# EAGLE library part DIODES_INC._AZ34063UMTR-G1 (library Diodes Inc. - AZ34063UMTR-G1)
Buck, Boost Switching Regulator IC Positive or Negative Adjustable 1.25V 1 Output 1.5A (Switch) 8-SOIC (0.154", 3.90mm Width)
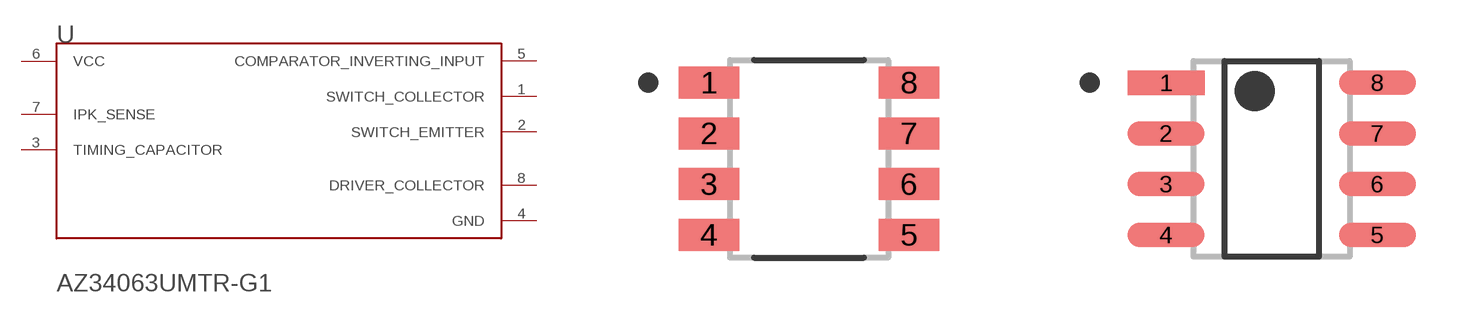
[diagram p0: symbol with the pads of DIODES_INC._AZ34063UMTR-G1_0; footprints DIODES_INC._AZ34063UMTR-G1_0, DIODES_INC._AZ34063UMTR-G1_1]

Designator prefix U

## DIODES_INC._AZ34063UMTR-G1DIODES_INC._AZ34063UMTR-G1_0_0 (DIS: Digi-Key; DPN: AZ34063UMTR-G1DICT-ND; MFR: Diodes Incorporated; MPN: AZ34063UMTR-G1)  [DIODES_INC._AZ34063UMTR-G1_0]
1  SWITCH_COLLECTOR  pas
2  SWITCH_EMITTER  pas
3  TIMING_CAPACITOR  pas
4  GND  pwr
5  COMPARATOR_INVERTING_INPUT  pas
6  VCC  pwr
7  IPK_SENSE  in
8  DRIVER_COLLECTOR  pas

## DIODES_INC._AZ34063UMTR-G1DIODES_INC._AZ34063UMTR-G1_0_1 (AMBIENT_TEMPERATURE_RANGE_HIGH: +85°C; AMBIENT_TEMPERATURE_RANGE_LOW: -40°C; AUTOMOTIVE: No; CENTROID_NOT_SPECIFIED: No; DATASHEET: https://www.diodes.com/assets/Datasheets/AZ34063U.pdf; DEVICE_CLASS_L1: Integrated Circuits (ICs); DEVICE_CLASS_L2: Power Management ICs; DEVICE_CLASS_L3: Voltage Regulators - Switching; DIGIKEY_DESCRIPTION: IC REG BUCK BST ADJ 1.5A 8SOIC; DIGIKEY_PART_NUMBER: AZ34063UMTR-G1DICT-ND; FOOTPRINT_PARAMETERS_1: {"fp_type":"SOIC_narrow","params":{"N":{"nom":"8","long name":"Number of leads","min":null,"max":null,"short name":"N","type":"count"},"A":{"nom":1600000,"long name":"Height","min":1500000,"max":1700000,"short name":"A","type":"measurement"},"A1":{"nom":150000,"long name":"Package clearance","min":100000,"max":200000,"short name":"A1","type":"measurement"},"A2":{"nom":1450000,"long name":"Package height","min":1400000,"max":1500000,"short name":"A2","type":"measurement"},"D":{"nom":4900000,"long name":"Package length","min":4850000,"max":4950000,"short name":"D","type":"measurement"},"E":{"nom":6000000,"long name":"Width w/ leads","min":5900000,"max":6100000,"short name":"E","type":"measurement"},"E1":{"nom":3900000,"long name":"Package width","min":3850000,"max":3950000,"short name":"E1","type":"measurement"},"B":{"nom":400000,"long name":"Lead width","min":300000,"max":500000,"short name":"B","type":"measurement"},"C":{"nom":200000,"long name":"Lead thickness","min":150000,"max":250000,"short name":"C","type":"measurement"},"e":{"nom":1270000,"long name":"Lead pitch","min":null,"max":null,"short name":"e","type":"measurement"},"L":{"nom":720000,"long name":"Lead foot length","min":620000,"max":820000,"short name":"L","type":"measurement"},"PHI":{"nom":4000000,"long name":"Lead foot angle","min":1000000,"max":7000000,"short name":"PHI","type":"measurement"},"HT":{"default":"No","long name":"Thermal pad","type":"multichoiceparent","short name":"HT","children":[]},"offset x":{"nom":0,"long name":"X Center offset","min":null,"max":null,"short name":"offset x","type":"measurement"},"offset y":{"nom":0,"long name":"Y Center offset","min":null,"max":null,"short name":"offset y","type":"measurement"},"LS":{"default":"Rounded rectangle","long name":"Land shape","type":"multichoice","short name":"LS"},"LS1":{"default":"Rectangle","long name":"Land shape (Pin 1)","type":"multichoice","short name":"LS1"},"solder toe":{"nom":550000,"long name":"Solder fillet (toe)","min":null,"max":null,"short name":"solder toe","type":"fixedmeasurement"},"solder heel":{"nom":450000,"long name":"Solder fillet (heel)","min":null,"max":null,"short name":"solder heel","type":"fixedmeasurement"},"solder side":{"nom":50000,"long name":"Solder fillet (side)","min":null,"max":null,"short name":"solder side","type":"fixedmeasurement"},"courtyard":{"nom":500000,"long name":"Courtyard","min":null,"max":null,"short name":"courtyard","type":"fixedmeasurement"},"SF":{"default":"A","long name":"Packing level","type":"multichoiceparent","short name":"SF","help":"http://support.upverter.com/customer/portal/articles/978783-what-is-a-footprint-packing-level","children":["solder toe","solder heel","solder side","courtyard"]}}}; FOOTPRINT_PARAMETERS_2: {"fp_type":"SOIC_narrow","params":{"N":{"nom":"8","long name":"Number of leads","min":null,"max":null,"short name":"N","type":"count"},"A":{"nom":1600000,"long name":"Height","min":1500000,"max":1700000,"short name":"A","type":"measurement"},"A1":{"nom":150000,"long name":"Package clearance","min":100000,"max":200000,"short name":"A1","type":"measurement"},"A2":{"nom":1450000,"long name":"Package height","min":1400000,"max":1500000,"short name":"A2","type":"measurement"},"D":{"nom":4900000,"long name":"Package length","min":4850000,"max":4950000,"short name":"D","type":"measurement"},"E":{"nom":6000000,"long name":"Width w/ leads","min":5900000,"max":6100000,"short name":"E","type":"measurement"},"E1":{"nom":3900000,"long name":"Package width","min":3850000,"max":3950000,"short name":"E1","type":"measurement"},"B":{"nom":400000,"long name":"Lead width","min":300000,"max":500000,"short name":"B","type":"measurement"},"C":{"nom":200000,"long name":"Lead thickness","min":150000,"max":250000,"short name":"C","type":"measurement"},"e":{"nom":1270000,"long name":"Lead pitch","min":null,"max":null,"short name":"e","type":"measurement"},"L":{"nom":720000,"long name":"Lead foot length","min":620000,"max":820000,"short name":"L","type":"measurement"},"PHI":{"nom":4000000,"long name":"Lead foot angle","min":1000000,"max":7000000,"short name":"PHI","type":"measurement"},"HT":{"default":"No","long name":"Thermal pad","type":"multichoiceparent","short name":"HT","children":[]},"offset x":{"nom":0,"long name":"X Center offset","min":null,"max":null,"short name":"offset x","type":"measurement"},"offset y":{"nom":0,"long name":"Y Center offset","min":null,"max":null,"short name":"offset y","type":"measurement"},"LS":{"default":"Rounded rectangle","long name":"Land shape","type":"multichoice","short name":"LS"},"LS1":{"default":"Rectangle","long name":"Land shape (Pin 1)","type":"multichoice","short name":"LS1"},"solder toe":{"nom":350000,"long name":"Solder fillet (toe)","min":null,"max":null,"short name":"solder toe","type":"fixedmeasurement"},"solder heel":{"nom":350000,"long name":"Solder fillet (heel)","min":null,"max":null,"short name":"solder heel","type":"fixedmeasurement"},"solder side":{"nom":30000,"long name":"Solder fillet (side)","min":null,"max":null,"short name":"solder side","type":"fixedmeasurement"},"courtyard":{"nom":250000,"long name":"Courtyard","min":null,"max":null,"short name":"courtyard","type":"fixedmeasurement"},"SF":{"default":"B","long name":"Packing level","type":"multichoiceparent","short name":"SF","help":"http://support.upverter.com/customer/portal/articles/978783-what-is-a-footprint-packing-level","children":["solder toe","solder heel","solder side","courtyard"]}}}; FOOTPRINT_PARAMETERS_3: {"fp_type":"SOIC_narrow","params":{"N":{"nom":"8","long name":"Number of leads","min":null,"max":null,"short name":"N","type":"count"},"A":{"nom":1600000,"long name":"Height","min":1500000,"max":1700000,"short name":"A","type":"measurement"},"A1":{"nom":150000,"long name":"Package clearance","min":100000,"max":200000,"short name":"A1","type":"measurement"},"A2":{"nom":1450000,"long name":"Package height","min":1400000,"max":1500000,"short name":"A2","type":"measurement"},"D":{"nom":4900000,"long name":"Package length","min":4850000,"max":4950000,"short name":"D","type":"measurement"},"E":{"nom":6000000,"long name":"Width w/ leads","min":5900000,"max":6100000,"short name":"E","type":"measurement"},"E1":{"nom":3900000,"long name":"Package width","min":3850000,"max":3950000,"short name":"E1","type":"measurement"},"B":{"nom":400000,"long name":"Lead width","min":300000,"max":500000,"short name":"B","type":"measurement"},"C":{"nom":200000,"long name":"Lead thickness","min":150000,"max":250000,"short name":"C","type":"measurement"},"e":{"nom":1270000,"long name":"Lead pitch","min":null,"max":null,"short name":"e","type":"measurement"},"L":{"nom":720000,"long name":"Lead foot length","min":620000,"max":820000,"short name":"L","type":"measurement"},"PHI":{"nom":4000000,"long name":"Lead foot angle","min":1000000,"max":7000000,"short name":"PHI","type":"measurement"},"HT":{"default":"No","long name":"Thermal pad","type":"multichoiceparent","short name":"HT","children":[]},"offset x":{"nom":0,"long name":"X Center offset","min":null,"max":null,"short name":"offset x","type":"measurement"},"offset y":{"nom":0,"long name":"Y Center offset","min":null,"max":null,"short name":"offset y","type":"measurement"},"LS":{"default":"Rounded rectangle","long name":"Land shape","type":"multichoice","short name":"LS"},"LS1":{"default":"Rectangle","long name":"Land shape (Pin 1)","type":"multichoice","short name":"LS1"},"solder toe":{"nom":150000,"long name":"Solder fillet (toe)","min":null,"max":null,"short name":"solder toe","type":"fixedmeasurement"},"solder heel":{"nom":250000,"long name":"Solder fillet (heel)","min":null,"max":null,"short name":"solder heel","type":"fixedmeasurement"},"solder side":{"nom":10000,"long name":"Solder fillet (side)","min":null,"max":null,"short name":"solder side","type":"fixedmeasurement"},"courtyard":{"nom":100000,"long name":"Courtyard","min":null,"max":null,"short name":"courtyard","type":"fixedmeasurement"},"SF":{"default":"C","long name":"Packing level","type":"multichoiceparent","short name":"SF","help":"http://support.upverter.com/customer/portal/articles/978783-what-is-a-footprint-packing-level","children":["solder toe","solder heel","solder side","courtyard"]}}}; FOOTPRINT_URL: https://www.diodes.com/assets/Package-Files/SO-8.pdf; FOOTPRINT_VARIANT_NAME_0: Recommended_Land_Pattern; FOOTPRINT_VARIANT_NAME_1: IPC_A; FOOTPRINT_VARIANT_NAME_2: IPC_B; FOOTPRINT_VARIANT_NAME_3: IPC_C; HEIGHT: 1.7mm; IPC_LAND_PATTERN_NAME: SOIC127P600X160-8; LEAD_FREE: Yes; MAX_JUNCTION_TEMP: +150°C; MAX_POWER_DISSIPATION: 780mW; MAX_SUPPLY_VOLTAGE: 36V; MF: Diodes Inc.; MFG_PACKAGE_IDENT: SO-8; MFG_PACKAGE_IDENT_COMPONENT_ID: 5582ebb69da50281; MFG_PACKAGE_IDENT_DATE: 03/2017; MFG_PACKAGE_IDENT_REV: 0; MIN_SUPPLY_VOLTAGE: 3V; MOUSER_DESCRIPTION: Voltage Regulators - Switching Regulators 1.5A Step-Down/Up 3.0V to 36V 180kHz; MOUSER_PART_NUMBER: 621-AZ34063UMTR-G1; MPN: AZ34063UMTR-G1; NOMINAL_SUPPLY_CURRENT: 4mA; NUMBER_OF_OUTPUTS: 1; OUTPUT_CURRENT: 1.5A; OUTPUT_TYPE: AdjustableProgrammable; OUTPUT_VOLTAGE: 1.25-36V; PACKAGE: SOIC8; PREFIX: U; ROHS: Yes; STANDOFF_HEIGHT: 0.1mm; SWITCHING_FREQUENCY: 38kHz; SWITCHING_TOPOLOGY: Buck-Boost; TEMPERATURE_RANGE_HIGH: +85°C; TEMPERATURE_RANGE_LOW: -40°C; VERIFICATION_VERSION: 0.0.0.3)  [DIODES_INC._AZ34063UMTR-G1_1]
Pads as for DIODES_INC._AZ34063UMTR-G1_0

## DIODES_INC._AZ34063UMTR-G1DIODES_INC._AZ34063UMTR-G1_0_2 (AMBIENT_TEMPERATURE_RANGE_HIGH: +85°C; AMBIENT_TEMPERATURE_RANGE_LOW: -40°C; AUTOMOTIVE: No; CENTROID_NOT_SPECIFIED: No; DATASHEET: https://www.diodes.com/assets/Datasheets/AZ34063U.pdf; DEVICE_CLASS_L1: Integrated Circuits (ICs); DEVICE_CLASS_L2: Power Management ICs; DEVICE_CLASS_L3: Voltage Regulators - Switching; DIGIKEY_DESCRIPTION: IC REG BUCK BST ADJ 1.5A 8SOIC; DIGIKEY_PART_NUMBER: AZ34063UMTR-G1DICT-ND; FOOTPRINT_PARAMETERS_1: {"fp_type":"SOIC_narrow","params":{"N":{"nom":"8","long name":"Number of leads","min":null,"max":null,"short name":"N","type":"count"},"A":{"nom":1600000,"long name":"Height","min":1500000,"max":1700000,"short name":"A","type":"measurement"},"A1":{"nom":150000,"long name":"Package clearance","min":100000,"max":200000,"short name":"A1","type":"measurement"},"A2":{"nom":1450000,"long name":"Package height","min":1400000,"max":1500000,"short name":"A2","type":"measurement"},"D":{"nom":4900000,"long name":"Package length","min":4850000,"max":4950000,"short name":"D","type":"measurement"},"E":{"nom":6000000,"long name":"Width w/ leads","min":5900000,"max":6100000,"short name":"E","type":"measurement"},"E1":{"nom":3900000,"long name":"Package width","min":3850000,"max":3950000,"short name":"E1","type":"measurement"},"B":{"nom":400000,"long name":"Lead width","min":300000,"max":500000,"short name":"B","type":"measurement"},"C":{"nom":200000,"long name":"Lead thickness","min":150000,"max":250000,"short name":"C","type":"measurement"},"e":{"nom":1270000,"long name":"Lead pitch","min":null,"max":null,"short name":"e","type":"measurement"},"L":{"nom":720000,"long name":"Lead foot length","min":620000,"max":820000,"short name":"L","type":"measurement"},"PHI":{"nom":4000000,"long name":"Lead foot angle","min":1000000,"max":7000000,"short name":"PHI","type":"measurement"},"HT":{"default":"No","long name":"Thermal pad","type":"multichoiceparent","short name":"HT","children":[]},"offset x":{"nom":0,"long name":"X Center offset","min":null,"max":null,"short name":"offset x","type":"measurement"},"offset y":{"nom":0,"long name":"Y Center offset","min":null,"max":null,"short name":"offset y","type":"measurement"},"LS":{"default":"Rounded rectangle","long name":"Land shape","type":"multichoice","short name":"LS"},"LS1":{"default":"Rectangle","long name":"Land shape (Pin 1)","type":"multichoice","short name":"LS1"},"solder toe":{"nom":550000,"long name":"Solder fillet (toe)","min":null,"max":null,"short name":"solder toe","type":"fixedmeasurement"},"solder heel":{"nom":450000,"long name":"Solder fillet (heel)","min":null,"max":null,"short name":"solder heel","type":"fixedmeasurement"},"solder side":{"nom":50000,"long name":"Solder fillet (side)","min":null,"max":null,"short name":"solder side","type":"fixedmeasurement"},"courtyard":{"nom":500000,"long name":"Courtyard","min":null,"max":null,"short name":"courtyard","type":"fixedmeasurement"},"SF":{"default":"A","long name":"Packing level","type":"multichoiceparent","short name":"SF","help":"http://support.upverter.com/customer/portal/articles/978783-what-is-a-footprint-packing-level","children":["solder toe","solder heel","solder side","courtyard"]}}}; FOOTPRINT_PARAMETERS_2: {"fp_type":"SOIC_narrow","params":{"N":{"nom":"8","long name":"Number of leads","min":null,"max":null,"short name":"N","type":"count"},"A":{"nom":1600000,"long name":"Height","min":1500000,"max":1700000,"short name":"A","type":"measurement"},"A1":{"nom":150000,"long name":"Package clearance","min":100000,"max":200000,"short name":"A1","type":"measurement"},"A2":{"nom":1450000,"long name":"Package height","min":1400000,"max":1500000,"short name":"A2","type":"measurement"},"D":{"nom":4900000,"long name":"Package length","min":4850000,"max":4950000,"short name":"D","type":"measurement"},"E":{"nom":6000000,"long name":"Width w/ leads","min":5900000,"max":6100000,"short name":"E","type":"measurement"},"E1":{"nom":3900000,"long name":"Package width","min":3850000,"max":3950000,"short name":"E1","type":"measurement"},"B":{"nom":400000,"long name":"Lead width","min":300000,"max":500000,"short name":"B","type":"measurement"},"C":{"nom":200000,"long name":"Lead thickness","min":150000,"max":250000,"short name":"C","type":"measurement"},"e":{"nom":1270000,"long name":"Lead pitch","min":null,"max":null,"short name":"e","type":"measurement"},"L":{"nom":720000,"long name":"Lead foot length","min":620000,"max":820000,"short name":"L","type":"measurement"},"PHI":{"nom":4000000,"long name":"Lead foot angle","min":1000000,"max":7000000,"short name":"PHI","type":"measurement"},"HT":{"default":"No","long name":"Thermal pad","type":"multichoiceparent","short name":"HT","children":[]},"offset x":{"nom":0,"long name":"X Center offset","min":null,"max":null,"short name":"offset x","type":"measurement"},"offset y":{"nom":0,"long name":"Y Center offset","min":null,"max":null,"short name":"offset y","type":"measurement"},"LS":{"default":"Rounded rectangle","long name":"Land shape","type":"multichoice","short name":"LS"},"LS1":{"default":"Rectangle","long name":"Land shape (Pin 1)","type":"multichoice","short name":"LS1"},"solder toe":{"nom":350000,"long name":"Solder fillet (toe)","min":null,"max":null,"short name":"solder toe","type":"fixedmeasurement"},"solder heel":{"nom":350000,"long name":"Solder fillet (heel)","min":null,"max":null,"short name":"solder heel","type":"fixedmeasurement"},"solder side":{"nom":30000,"long name":"Solder fillet (side)","min":null,"max":null,"short name":"solder side","type":"fixedmeasurement"},"courtyard":{"nom":250000,"long name":"Courtyard","min":null,"max":null,"short name":"courtyard","type":"fixedmeasurement"},"SF":{"default":"B","long name":"Packing level","type":"multichoiceparent","short name":"SF","help":"http://support.upverter.com/customer/portal/articles/978783-what-is-a-footprint-packing-level","children":["solder toe","solder heel","solder side","courtyard"]}}}; FOOTPRINT_PARAMETERS_3: {"fp_type":"SOIC_narrow","params":{"N":{"nom":"8","long name":"Number of leads","min":null,"max":null,"short name":"N","type":"count"},"A":{"nom":1600000,"long name":"Height","min":1500000,"max":1700000,"short name":"A","type":"measurement"},"A1":{"nom":150000,"long name":"Package clearance","min":100000,"max":200000,"short name":"A1","type":"measurement"},"A2":{"nom":1450000,"long name":"Package height","min":1400000,"max":1500000,"short name":"A2","type":"measurement"},"D":{"nom":4900000,"long name":"Package length","min":4850000,"max":4950000,"short name":"D","type":"measurement"},"E":{"nom":6000000,"long name":"Width w/ leads","min":5900000,"max":6100000,"short name":"E","type":"measurement"},"E1":{"nom":3900000,"long name":"Package width","min":3850000,"max":3950000,"short name":"E1","type":"measurement"},"B":{"nom":400000,"long name":"Lead width","min":300000,"max":500000,"short name":"B","type":"measurement"},"C":{"nom":200000,"long name":"Lead thickness","min":150000,"max":250000,"short name":"C","type":"measurement"},"e":{"nom":1270000,"long name":"Lead pitch","min":null,"max":null,"short name":"e","type":"measurement"},"L":{"nom":720000,"long name":"Lead foot length","min":620000,"max":820000,"short name":"L","type":"measurement"},"PHI":{"nom":4000000,"long name":"Lead foot angle","min":1000000,"max":7000000,"short name":"PHI","type":"measurement"},"HT":{"default":"No","long name":"Thermal pad","type":"multichoiceparent","short name":"HT","children":[]},"offset x":{"nom":0,"long name":"X Center offset","min":null,"max":null,"short name":"offset x","type":"measurement"},"offset y":{"nom":0,"long name":"Y Center offset","min":null,"max":null,"short name":"offset y","type":"measurement"},"LS":{"default":"Rounded rectangle","long name":"Land shape","type":"multichoice","short name":"LS"},"LS1":{"default":"Rectangle","long name":"Land shape (Pin 1)","type":"multichoice","short name":"LS1"},"solder toe":{"nom":150000,"long name":"Solder fillet (toe)","min":null,"max":null,"short name":"solder toe","type":"fixedmeasurement"},"solder heel":{"nom":250000,"long name":"Solder fillet (heel)","min":null,"max":null,"short name":"solder heel","type":"fixedmeasurement"},"solder side":{"nom":10000,"long name":"Solder fillet (side)","min":null,"max":null,"short name":"solder side","type":"fixedmeasurement"},"courtyard":{"nom":100000,"long name":"Courtyard","min":null,"max":null,"short name":"courtyard","type":"fixedmeasurement"},"SF":{"default":"C","long name":"Packing level","type":"multichoiceparent","short name":"SF","help":"http://support.upverter.com/customer/portal/articles/978783-what-is-a-footprint-packing-level","children":["solder toe","solder heel","solder side","courtyard"]}}}; FOOTPRINT_URL: https://www.diodes.com/assets/Package-Files/SO-8.pdf; FOOTPRINT_VARIANT_NAME_0: Recommended_Land_Pattern; FOOTPRINT_VARIANT_NAME_1: IPC_A; FOOTPRINT_VARIANT_NAME_2: IPC_B; FOOTPRINT_VARIANT_NAME_3: IPC_C; HEIGHT: 1.7mm; IPC_LAND_PATTERN_NAME: SOIC127P600X160-8; LEAD_FREE: Yes; MAX_JUNCTION_TEMP: +150°C; MAX_POWER_DISSIPATION: 780mW; MAX_SUPPLY_VOLTAGE: 36V; MF: Diodes Inc.; MFG_PACKAGE_IDENT: SO-8; MFG_PACKAGE_IDENT_COMPONENT_ID: 5582ebb69da50281; MFG_PACKAGE_IDENT_DATE: 03/2017; MFG_PACKAGE_IDENT_REV: 0; MIN_SUPPLY_VOLTAGE: 3V; MOUSER_DESCRIPTION: Voltage Regulators - Switching Regulators 1.5A Step-Down/Up 3.0V to 36V 180kHz; MOUSER_PART_NUMBER: 621-AZ34063UMTR-G1; MPN: AZ34063UMTR-G1; NOMINAL_SUPPLY_CURRENT: 4mA; NUMBER_OF_OUTPUTS: 1; OUTPUT_CURRENT: 1.5A; OUTPUT_TYPE: AdjustableProgrammable; OUTPUT_VOLTAGE: 1.25-36V; PACKAGE: SOIC8; PREFIX: U; ROHS: Yes; STANDOFF_HEIGHT: 0.1mm; SWITCHING_FREQUENCY: 38kHz; SWITCHING_TOPOLOGY: Buck-Boost; TEMPERATURE_RANGE_HIGH: +85°C; TEMPERATURE_RANGE_LOW: -40°C; VERIFICATION_VERSION: 0.0.0.3)  [DIODES_INC._AZ34063UMTR-G1_2]
Pads as for DIODES_INC._AZ34063UMTR-G1_0

## DIODES_INC._AZ34063UMTR-G1DIODES_INC._AZ34063UMTR-G1_0_3 (AMBIENT_TEMPERATURE_RANGE_HIGH: +85°C; AMBIENT_TEMPERATURE_RANGE_LOW: -40°C; AUTOMOTIVE: No; CENTROID_NOT_SPECIFIED: No; DATASHEET: https://www.diodes.com/assets/Datasheets/AZ34063U.pdf; DEVICE_CLASS_L1: Integrated Circuits (ICs); DEVICE_CLASS_L2: Power Management ICs; DEVICE_CLASS_L3: Voltage Regulators - Switching; DIGIKEY_DESCRIPTION: IC REG BUCK BST ADJ 1.5A 8SOIC; DIGIKEY_PART_NUMBER: AZ34063UMTR-G1DICT-ND; FOOTPRINT_PARAMETERS_1: {"fp_type":"SOIC_narrow","params":{"N":{"nom":"8","long name":"Number of leads","min":null,"max":null,"short name":"N","type":"count"},"A":{"nom":1600000,"long name":"Height","min":1500000,"max":1700000,"short name":"A","type":"measurement"},"A1":{"nom":150000,"long name":"Package clearance","min":100000,"max":200000,"short name":"A1","type":"measurement"},"A2":{"nom":1450000,"long name":"Package height","min":1400000,"max":1500000,"short name":"A2","type":"measurement"},"D":{"nom":4900000,"long name":"Package length","min":4850000,"max":4950000,"short name":"D","type":"measurement"},"E":{"nom":6000000,"long name":"Width w/ leads","min":5900000,"max":6100000,"short name":"E","type":"measurement"},"E1":{"nom":3900000,"long name":"Package width","min":3850000,"max":3950000,"short name":"E1","type":"measurement"},"B":{"nom":400000,"long name":"Lead width","min":300000,"max":500000,"short name":"B","type":"measurement"},"C":{"nom":200000,"long name":"Lead thickness","min":150000,"max":250000,"short name":"C","type":"measurement"},"e":{"nom":1270000,"long name":"Lead pitch","min":null,"max":null,"short name":"e","type":"measurement"},"L":{"nom":720000,"long name":"Lead foot length","min":620000,"max":820000,"short name":"L","type":"measurement"},"PHI":{"nom":4000000,"long name":"Lead foot angle","min":1000000,"max":7000000,"short name":"PHI","type":"measurement"},"HT":{"default":"No","long name":"Thermal pad","type":"multichoiceparent","short name":"HT","children":[]},"offset x":{"nom":0,"long name":"X Center offset","min":null,"max":null,"short name":"offset x","type":"measurement"},"offset y":{"nom":0,"long name":"Y Center offset","min":null,"max":null,"short name":"offset y","type":"measurement"},"LS":{"default":"Rounded rectangle","long name":"Land shape","type":"multichoice","short name":"LS"},"LS1":{"default":"Rectangle","long name":"Land shape (Pin 1)","type":"multichoice","short name":"LS1"},"solder toe":{"nom":550000,"long name":"Solder fillet (toe)","min":null,"max":null,"short name":"solder toe","type":"fixedmeasurement"},"solder heel":{"nom":450000,"long name":"Solder fillet (heel)","min":null,"max":null,"short name":"solder heel","type":"fixedmeasurement"},"solder side":{"nom":50000,"long name":"Solder fillet (side)","min":null,"max":null,"short name":"solder side","type":"fixedmeasurement"},"courtyard":{"nom":500000,"long name":"Courtyard","min":null,"max":null,"short name":"courtyard","type":"fixedmeasurement"},"SF":{"default":"A","long name":"Packing level","type":"multichoiceparent","short name":"SF","help":"http://support.upverter.com/customer/portal/articles/978783-what-is-a-footprint-packing-level","children":["solder toe","solder heel","solder side","courtyard"]}}}; FOOTPRINT_PARAMETERS_2: {"fp_type":"SOIC_narrow","params":{"N":{"nom":"8","long name":"Number of leads","min":null,"max":null,"short name":"N","type":"count"},"A":{"nom":1600000,"long name":"Height","min":1500000,"max":1700000,"short name":"A","type":"measurement"},"A1":{"nom":150000,"long name":"Package clearance","min":100000,"max":200000,"short name":"A1","type":"measurement"},"A2":{"nom":1450000,"long name":"Package height","min":1400000,"max":1500000,"short name":"A2","type":"measurement"},"D":{"nom":4900000,"long name":"Package length","min":4850000,"max":4950000,"short name":"D","type":"measurement"},"E":{"nom":6000000,"long name":"Width w/ leads","min":5900000,"max":6100000,"short name":"E","type":"measurement"},"E1":{"nom":3900000,"long name":"Package width","min":3850000,"max":3950000,"short name":"E1","type":"measurement"},"B":{"nom":400000,"long name":"Lead width","min":300000,"max":500000,"short name":"B","type":"measurement"},"C":{"nom":200000,"long name":"Lead thickness","min":150000,"max":250000,"short name":"C","type":"measurement"},"e":{"nom":1270000,"long name":"Lead pitch","min":null,"max":null,"short name":"e","type":"measurement"},"L":{"nom":720000,"long name":"Lead foot length","min":620000,"max":820000,"short name":"L","type":"measurement"},"PHI":{"nom":4000000,"long name":"Lead foot angle","min":1000000,"max":7000000,"short name":"PHI","type":"measurement"},"HT":{"default":"No","long name":"Thermal pad","type":"multichoiceparent","short name":"HT","children":[]},"offset x":{"nom":0,"long name":"X Center offset","min":null,"max":null,"short name":"offset x","type":"measurement"},"offset y":{"nom":0,"long name":"Y Center offset","min":null,"max":null,"short name":"offset y","type":"measurement"},"LS":{"default":"Rounded rectangle","long name":"Land shape","type":"multichoice","short name":"LS"},"LS1":{"default":"Rectangle","long name":"Land shape (Pin 1)","type":"multichoice","short name":"LS1"},"solder toe":{"nom":350000,"long name":"Solder fillet (toe)","min":null,"max":null,"short name":"solder toe","type":"fixedmeasurement"},"solder heel":{"nom":350000,"long name":"Solder fillet (heel)","min":null,"max":null,"short name":"solder heel","type":"fixedmeasurement"},"solder side":{"nom":30000,"long name":"Solder fillet (side)","min":null,"max":null,"short name":"solder side","type":"fixedmeasurement"},"courtyard":{"nom":250000,"long name":"Courtyard","min":null,"max":null,"short name":"courtyard","type":"fixedmeasurement"},"SF":{"default":"B","long name":"Packing level","type":"multichoiceparent","short name":"SF","help":"http://support.upverter.com/customer/portal/articles/978783-what-is-a-footprint-packing-level","children":["solder toe","solder heel","solder side","courtyard"]}}}; FOOTPRINT_PARAMETERS_3: {"fp_type":"SOIC_narrow","params":{"N":{"nom":"8","long name":"Number of leads","min":null,"max":null,"short name":"N","type":"count"},"A":{"nom":1600000,"long name":"Height","min":1500000,"max":1700000,"short name":"A","type":"measurement"},"A1":{"nom":150000,"long name":"Package clearance","min":100000,"max":200000,"short name":"A1","type":"measurement"},"A2":{"nom":1450000,"long name":"Package height","min":1400000,"max":1500000,"short name":"A2","type":"measurement"},"D":{"nom":4900000,"long name":"Package length","min":4850000,"max":4950000,"short name":"D","type":"measurement"},"E":{"nom":6000000,"long name":"Width w/ leads","min":5900000,"max":6100000,"short name":"E","type":"measurement"},"E1":{"nom":3900000,"long name":"Package width","min":3850000,"max":3950000,"short name":"E1","type":"measurement"},"B":{"nom":400000,"long name":"Lead width","min":300000,"max":500000,"short name":"B","type":"measurement"},"C":{"nom":200000,"long name":"Lead thickness","min":150000,"max":250000,"short name":"C","type":"measurement"},"e":{"nom":1270000,"long name":"Lead pitch","min":null,"max":null,"short name":"e","type":"measurement"},"L":{"nom":720000,"long name":"Lead foot length","min":620000,"max":820000,"short name":"L","type":"measurement"},"PHI":{"nom":4000000,"long name":"Lead foot angle","min":1000000,"max":7000000,"short name":"PHI","type":"measurement"},"HT":{"default":"No","long name":"Thermal pad","type":"multichoiceparent","short name":"HT","children":[]},"offset x":{"nom":0,"long name":"X Center offset","min":null,"max":null,"short name":"offset x","type":"measurement"},"offset y":{"nom":0,"long name":"Y Center offset","min":null,"max":null,"short name":"offset y","type":"measurement"},"LS":{"default":"Rounded rectangle","long name":"Land shape","type":"multichoice","short name":"LS"},"LS1":{"default":"Rectangle","long name":"Land shape (Pin 1)","type":"multichoice","short name":"LS1"},"solder toe":{"nom":150000,"long name":"Solder fillet (toe)","min":null,"max":null,"short name":"solder toe","type":"fixedmeasurement"},"solder heel":{"nom":250000,"long name":"Solder fillet (heel)","min":null,"max":null,"short name":"solder heel","type":"fixedmeasurement"},"solder side":{"nom":10000,"long name":"Solder fillet (side)","min":null,"max":null,"short name":"solder side","type":"fixedmeasurement"},"courtyard":{"nom":100000,"long name":"Courtyard","min":null,"max":null,"short name":"courtyard","type":"fixedmeasurement"},"SF":{"default":"C","long name":"Packing level","type":"multichoiceparent","short name":"SF","help":"http://support.upverter.com/customer/portal/articles/978783-what-is-a-footprint-packing-level","children":["solder toe","solder heel","solder side","courtyard"]}}}; FOOTPRINT_URL: https://www.diodes.com/assets/Package-Files/SO-8.pdf; FOOTPRINT_VARIANT_NAME_0: Recommended_Land_Pattern; FOOTPRINT_VARIANT_NAME_1: IPC_A; FOOTPRINT_VARIANT_NAME_2: IPC_B; FOOTPRINT_VARIANT_NAME_3: IPC_C; HEIGHT: 1.7mm; IPC_LAND_PATTERN_NAME: SOIC127P600X160-8; LEAD_FREE: Yes; MAX_JUNCTION_TEMP: +150°C; MAX_POWER_DISSIPATION: 780mW; MAX_SUPPLY_VOLTAGE: 36V; MF: Diodes Inc.; MFG_PACKAGE_IDENT: SO-8; MFG_PACKAGE_IDENT_COMPONENT_ID: 5582ebb69da50281; MFG_PACKAGE_IDENT_DATE: 03/2017; MFG_PACKAGE_IDENT_REV: 0; MIN_SUPPLY_VOLTAGE: 3V; MOUSER_DESCRIPTION: Voltage Regulators - Switching Regulators 1.5A Step-Down/Up 3.0V to 36V 180kHz; MOUSER_PART_NUMBER: 621-AZ34063UMTR-G1; MPN: AZ34063UMTR-G1; NOMINAL_SUPPLY_CURRENT: 4mA; NUMBER_OF_OUTPUTS: 1; OUTPUT_CURRENT: 1.5A; OUTPUT_TYPE: AdjustableProgrammable; OUTPUT_VOLTAGE: 1.25-36V; PACKAGE: SOIC8; PREFIX: U; ROHS: Yes; STANDOFF_HEIGHT: 0.1mm; SWITCHING_FREQUENCY: 38kHz; SWITCHING_TOPOLOGY: Buck-Boost; TEMPERATURE_RANGE_HIGH: +85°C; TEMPERATURE_RANGE_LOW: -40°C; VERIFICATION_VERSION: 0.0.0.3)  [DIODES_INC._AZ34063UMTR-G1_3]
Pads as for DIODES_INC._AZ34063UMTR-G1_0

## Footprint DIODES_INC._AZ34063UMTR-G1_0 (pad centres in mm)
Buck, Boost Switching Regulator IC Positive or Negative Adjustable 1.25V 1 Output 1.5A (Switch) 8-SOIC (0.154", 3.90mm Width)
smd 1.505 x 0.802: 1 -2.498,1.905; 2 -2.498,0.635; 3 -2.498,-0.635; 4 -2.498,-1.905; 5 2.498,-1.905; 6 2.498,-0.635; 7 2.498,0.635; 8 2.498,1.905

## Footprint DIODES_INC._AZ34063UMTR-G1_1 (pad centres in mm)
Buck, Boost Switching Regulator IC Positive or Negative Adjustable 1.25V 1 Output 1.5A (Switch) 8-SOIC (0.154", 3.90mm Width)
smd 1.93 x 0.612: 1 -2.641,1.905; 2 -2.641,0.635; 3 -2.641,-0.635; 4 -2.641,-1.905; 5 2.641,-1.905; 6 2.641,-0.635; 7 2.641,0.635; 8 2.641,1.905

## Footprint DIODES_INC._AZ34063UMTR-G1_2 (pad centres in mm)
Buck, Boost Switching Regulator IC Positive or Negative Adjustable 1.25V 1 Output 1.5A (Switch) 8-SOIC (0.154", 3.90mm Width)
smd 1.63 x 0.572: 1 -2.591,1.905; 2 -2.591,0.635; 3 -2.591,-0.635; 4 -2.591,-1.905; 5 2.591,-1.905; 6 2.591,-0.635; 7 2.591,0.635; 8 2.591,1.905

## Footprint DIODES_INC._AZ34063UMTR-G1_3 (pad centres in mm)
Buck, Boost Switching Regulator IC Positive or Negative Adjustable 1.25V 1 Output 1.5A (Switch) 8-SOIC (0.154", 3.90mm Width)
smd 1.33 x 0.532: 1 -2.541,1.905; 2 -2.541,0.635; 3 -2.541,-0.635; 4 -2.541,-1.905; 5 2.541,-1.905; 6 2.541,-0.635; 7 2.541,0.635; 8 2.541,1.905